# Altium schematic symbol library passive_components.SchLib: 3 symbols
Pins are listed as number, name and electrical type; pins without a type are passive.

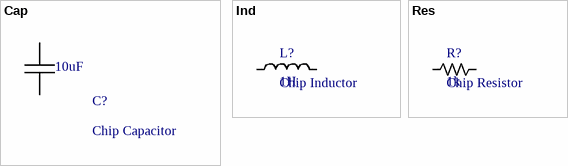
[diagram p0: symbols Cap to Res]

## Cap
designator C?, comment Chip Capacitor  value 10uF
Rating: *
footprint CAPC1005X06N (Chip Capacitor, 2-Leads, Body 1,00x0,50mm, IPC Medium Density)
footprint CAPC1608X09N (Chip Capacitor, 2-Leads, Body 1,60x0,80mm, IPC Medium Density)
footprint CAPC2012X14N (Chip Capacitor, 2-Leads, Body 2,00x1,25mm, IPC Medium Density)
footprint CAPC3216X19N (Chip Capacitor, 2-Leads, Body 3,20x1,60mm, IPC Medium Density)
pins: 1, 2

## Ind
designator L?, comment Chip Inductor  value 1H
footprint Model Name (Footprint not found)
footprint INDC2016X10N (Chip Inductor, 2-Leads, Body 2,00x1,60mm, IPC Medium Density)
pins: 1, 2

## Res
designator R?, comment Chip Resistor  value 1k
footprint RESC1005X04N (Chip Resistor, 2-Leads, Body 1,00x0,50mm, IPC Medium Density)
footprint RESC1608X05N (Chip Resistor, 2-Leads, Body 1,58x0,85mm, IPC Medium Density)
footprint RESC2012X05N (Chip Resistor, 2-Leads, Body 2,05x1,25mm, IPC Medium Density)
footprint RESC3216X06N (Chip Resistor, 2-Leads, Body 3,15x1,60mm, IPC Medium Density)
pins: 1, 2